# EAGLE library part RS485-2-TTL (library userlib)
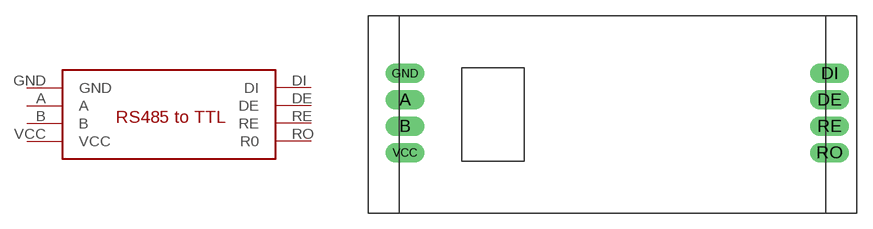
[diagram p6: symbol with the pads of RS485-2-TTL; footprint RS485-2-TTL]

Designator prefix RS485-2-TTL

## RS485-2-TTL  [RS485-2-TTL]
A  A
B  B
DE  DE
DI  DI
GND  GND
RE  RE
RO  R0
VCC  VCC

## Footprint RS485-2-TTL (pad centres in mm)
drill 1.016 pad 1.88 long: A 0.55,10.91; B 0.55,8.37; DE 41.38,10.91; DI 41.38,13.45; GND 0.55,13.45; RE 41.38,8.37; RO 41.38,5.83; VCC 0.55,5.83